# Altium footprint library 新通信板.PcbLib: 39 footprints (part 1 of 3)
Each footprint in its own frame and in the unit in brackets; x right, y up, seen from the top. Pads: shape width x height; smd on the part's side, far side on the other; paste and mask are expansions set on the pad; w line width, h text height; cw(c..) or ccw(c..) is an arc to the next point about the centre after c.
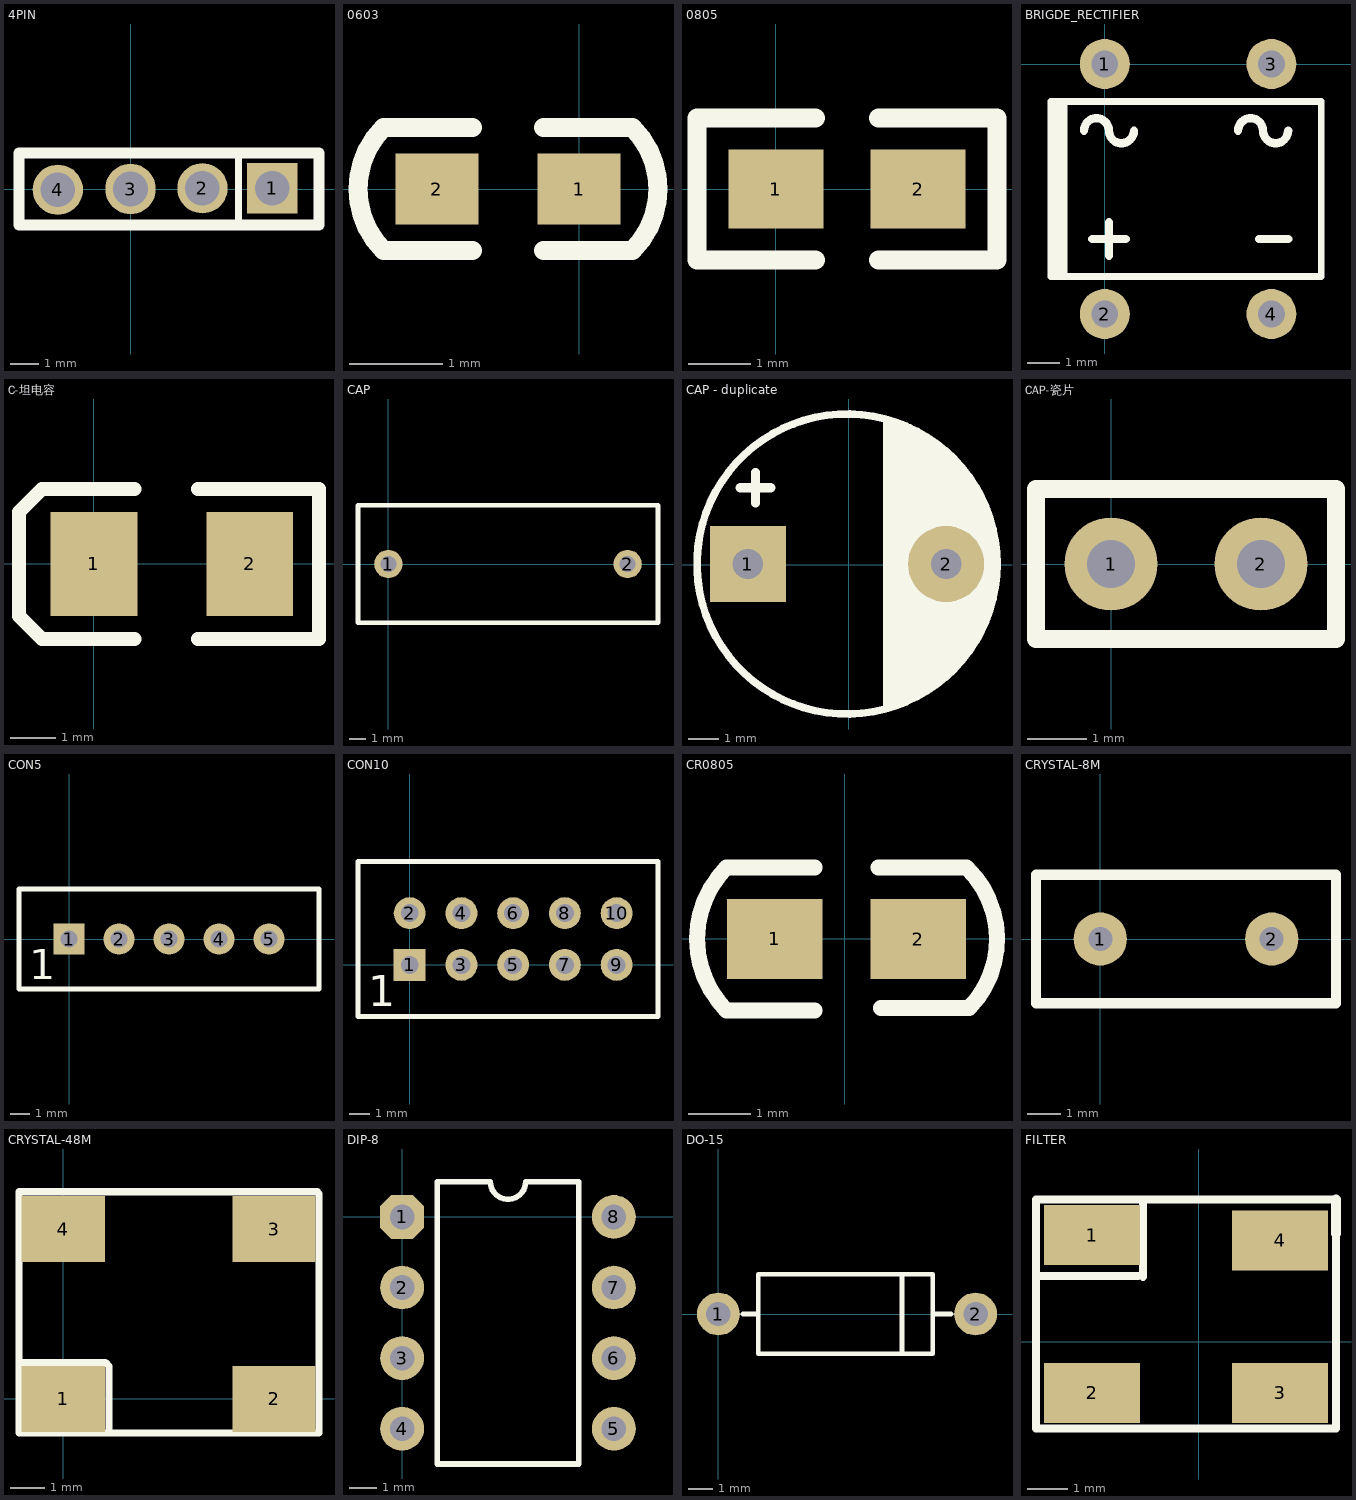
[diagram p0: the footprints below, top view; thin cyan lines are the x and y axes]

## 4PIN [mil]
pads (4):
  rect 70x70 hole 48: 1(197,1)
  round 70 hole 48: 2(100,1) 3(0,0) 4(-101,-1)
Top Overlay:
  lines w10: 150,-50 150,50
  lines w15: -155,-50 262,-50 262,50 -155,50 -155,-50

## 0603 [mil]
pads (2):
  rect 35x30 smd: 1(0,0) 2(-60,0)
Top Overlay:
  lines w8: -45,-26 -82.5,-26 cw(c-56.5,0) -82.5,26 -45,26 ; -15,-26 22.5,-26 ccw(c-3.5,0) 22.5,26 -15,26

## 0805 [mil]
pads (2):
  rect 60x50 smd: 1(0,0) 2(90,0)
Top Overlay:
  lines w12: 25,-45 -50,-45 -50,45 25,45 ; 65,-45 140,-45 140,45 65,45

## BRIGDE_RECTIFIER [mil]
pads (4):
  round 60 hole 32: 1(0,0) 2(0,-300) 3(200,0) 4(200,-300)
Top Overlay:
  rectangle: -65,-255 -45,-45
  lines w8: -65,-255 260,-255 260,-45 -65,-45 -65,-255
  lines w10: -25,-80 cw(c-10,-80) 5,-80 ccw(c20,-80) 35,-80 ; -15,-210 25,-210 ; 5,-230 5,-190 ; 160,-80 cw(c175,-80) 190,-80 ccw(c205,-80) 220,-80 ; 185,-210 220,-210

## C-坦电容 [mil]
pads (2):
  rect 75x90 smd: 1(0,0) 2(135,0)
Top Overlay:
  lines w12: 35,-65 -45,-65 -65,-45 -65,45 -45,65 35,65 ; 90,-65 195,-65 195,65 90,65

## CAP [mil]
pads (2):
  round 70 hole 40: 1(0,0) 2(590,0)
Top Overlay:
  lines w12: -75,-145 -75,145 665,145 665,-145 -75,-145

## CAP - duplicate [mil]
height 51.18
pads (2):
  rect 100x100 hole 40: 1(-132,1)
  round 100 hole 40: 2(128,1)
Top Overlay:
  circle w10: c-2,1 r196.85
  rectangle: 180,40 190,45
  lines w10: 50,-185 50,190 ; 60,-185 60,185 ; 70,-180 70,180 ; 80,-175 80,180 ; 90,-170 90,175 ; 100,-165 100,165 ; 110,-160 110,160 ; 120,-150 120,155 ; 130,-145 130,145 ; 140,-135 140,135 ; 140,-125 150,-115 150,125 ; 140,-110 160,-110 160,110 ; 170,-95 170,95 ; 180,-70 170,-70 170,-65 180,-65 180,75 ; 190,-40 190,40
  lines w12: -142,101 -102,101 ; -122,81 -122,121

## CAP-瓷片 [mil]
pads (2):
  round 62 hole 32: 1(0,0) 2(100,0)
Top Overlay:
  lines w12: -50,-50 -50,50 150,50 150,-50 -50,-50

## CON5 [mm]
pads (5):
  rect 1.57x1.57 hole 0.88: 1(0,0)
  round 1.57 hole 0.88: 2(2.54,0) 3(5.08,0) 4(7.62,0) 5(10.16,0)
Top Overlay:
  lines w0.254: -2.54,-2.54 -2.54,2.54 12.7,2.54 12.7,-2.54 -2.54,-2.54
  text "1" at -2.032,-2.032 h1.52

## CON10 [mm]
pads (10):
  rect 1.57x1.57 hole 0.88: 1(0,0)
  round 1.57 hole 0.88: 2(0,2.54) 3(2.54,0) 4(2.54,2.54) 5(5.08,0) 6(5.08,2.54) 7(7.62,0) 8(7.62,2.54) 9(10.16,0) 10(10.16,2.54)
Top Overlay:
  lines w0.254: -2.54,-2.54 -2.54,5.08 10.16,5.08 12.192,5.08 12.192,-2.54 10.16,-2.54 -2.54,-2.54
  text "1" at -2.032,-2.032 h1.52

## CR0805 [mil]
height 78.74
pads (2):
  rect 60x50 smd: 1(-44,0) 2(46,0)
Top Overlay:
  lines w10: -19,-45 -74.31,-45 cw(c-29.32,0) -74.32,45 -19,45 ; 21,45 76.31,45 cw(c33.03,-0.02) 78.05,-43.31 22.73,-43.31

## CRYSTAL-8M [mil]
pads (2):
  round 62 hole 28: 1(0,0) 2(200,0)
Top Overlay:
  lines w12: -75,-75 -75,75 275,75 275,-75 -75,-75

## CRYSTAL-48M [mm]
pads (4):
  rect 2.4x1.9 smd: 1(0,0) 2(6.08,0) 3(6.08,4.9) 4(0,4.9)
Top Overlay:
  lines w0.203: -1.275,1.05 1.225,1.05 1.325,0.95 1.325,-0.975 ; -1.275,-0.975 -1.275,5.975 7.325,5.975 7.375,5.925 7.375,-0.975 -1.275,-0.975

## DIP-8 [mil]
pads (8):
  oct 62x62 hole 35: 1(0,0)
  round 62 hole 35: 2(0,-100) 3(0,-200) 4(0,-300) 5(300,-300) 6(300,-200) 7(300,-100) 8(300,0)
Top Overlay:
  lines w7.87: 50,-350 250,-350 250,50 175,50 cw(c150,50) 125,50 50,50 50,-350

## DO-15 [mil]
pads (2):
  round 70 hole 40: 1(0,0) 2(420,0)
Top Overlay:
  lines w8: 40,0 65,0 ; 300,-65 300,65 ; 350,0 380,0 ; 65,-65 65,65 350,65 350,-65 65,-65

## FILTER [mm]
pads (4):
  rect 2.4x1.5 smd: 1(-2.667,2.667) 2(-2.667,-1.27) 3(2.032,-1.27) 4(2.032,2.54)
Top Overlay:
  lines w0.203: -4.024,1.651 -1.524,1.651 ; -1.397,1.631 -1.397,3.556 ; 3.429,2.714 3.429,-2.159 -4.069,-2.159 -4.069,3.556 3.429,3.556
  lines w0.254: 3.429,2.714 3.429,3.556